# Altium schematic symbol library Proteus.SchLib: 169 symbols (part 2 of 2)
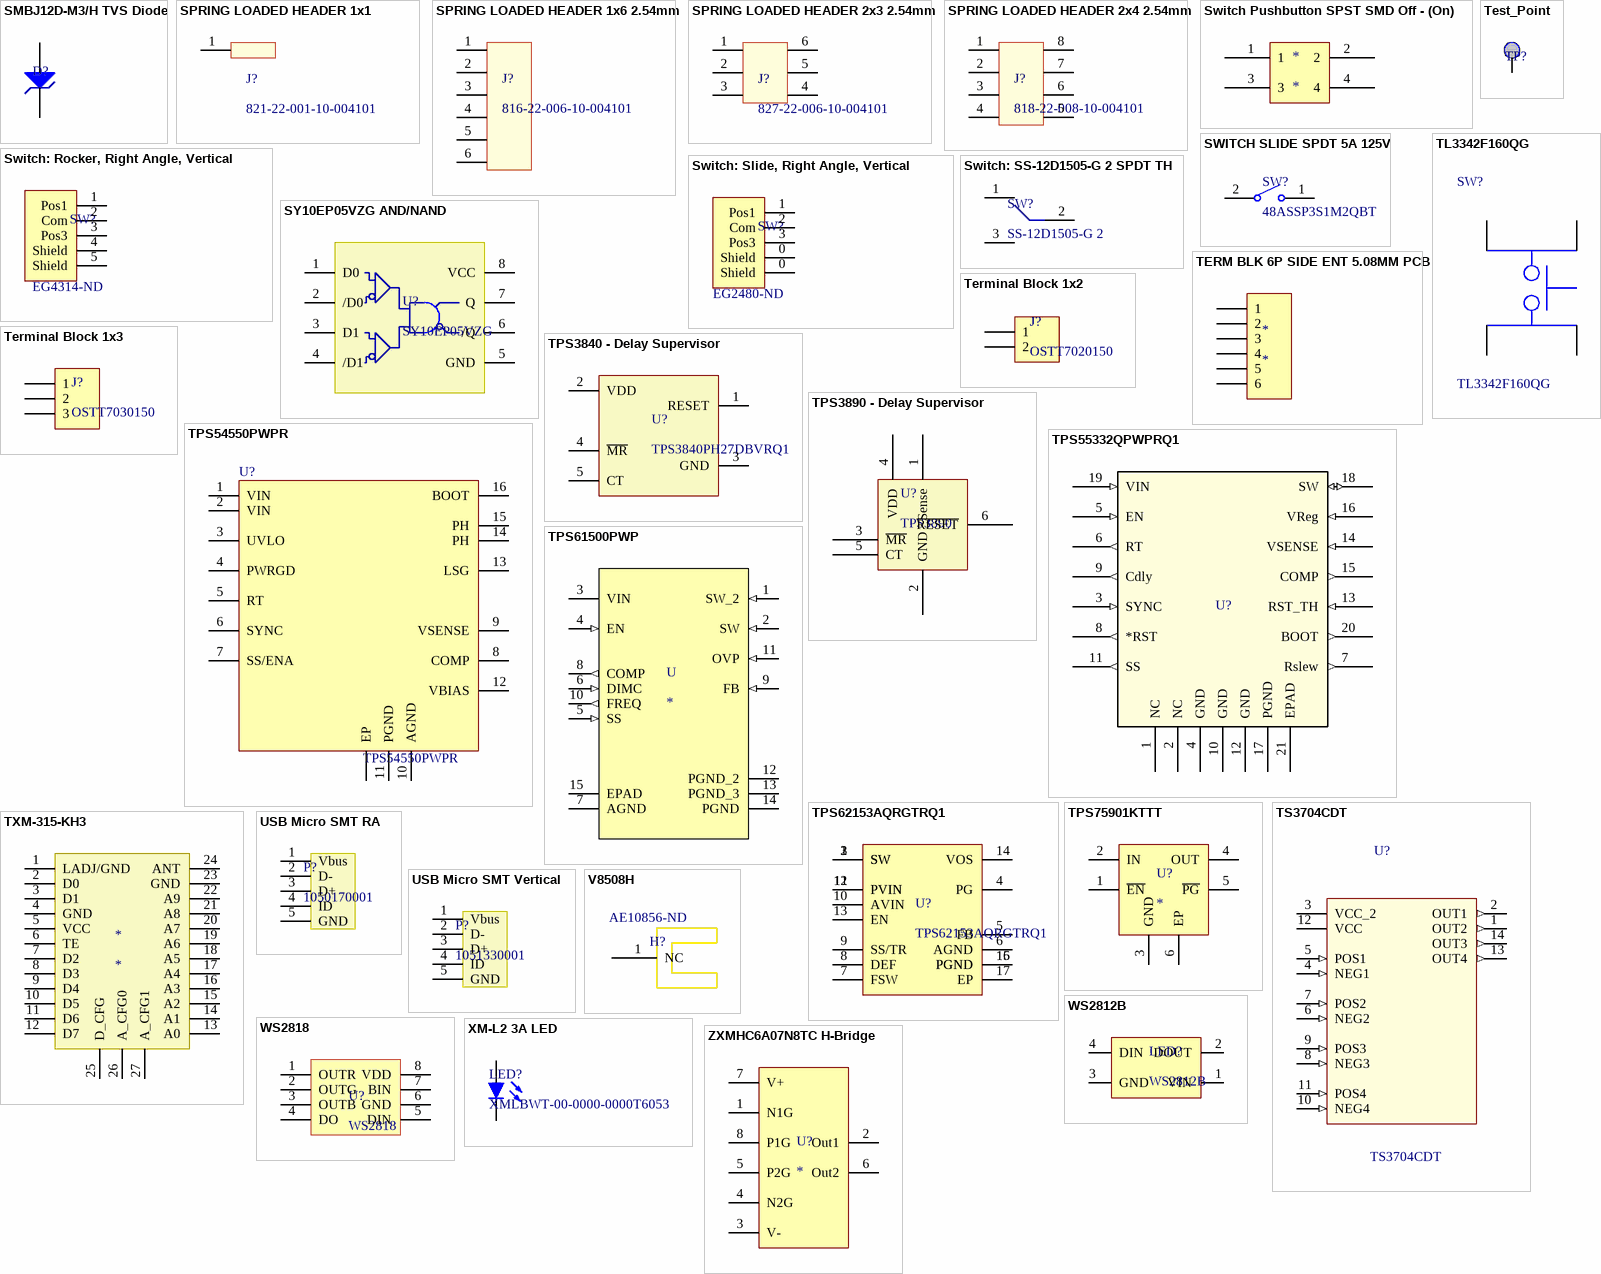
[diagram p5: symbols SMBJ12D-M3/H TVS Diode to ZXMHC6A07N8TC H-Bridge]

## TPS55332QPWPRQ1
designator U?  (value not drawn)
Boost Switching Regulator IC Positive Adjustable 2.5V 1 Output 3A (Switch) 20-TSSOP (0.173", 4.40mm Width) Exposed Pad; Manufacturer: Texas Instruments; Manufacturer PN: TPS55332QPWPRQ1; Supplier 1: Digikey; Supplier 1 PN: 296-24622-1-ND
footprint 20-TSSOP (20-TSSOP (0.173", 4.40mm Width) Exposed Pad)
pins: 1 NC, 2 NC, 3 SYNC (in), 4 GND (power), 5 EN (in), 6 RT (out), 7 Rslew (out), 8 *RST (out), 9 Cdly (out), 10 GND (power), 11 SS (out), 12 GND (power), 13 RST_TH (in), 14 VSENSE (in), 15 COMP (out), 16 VReg (in), 17 PGND (power), 18 SW (io), 19 VIN (in), 20 BOOT (out), 21 EPAD

## TPS61500PWP
designator U
High Brightness LED Driver with Integrated 3-A, 40-V Power Switch 14-HTSSOP -40 to 85; MF: Texas Instruments; MP: TPS61500PWP; SnapEDA_Link: https://www.snapeda.com/parts/TPS61500PWP/Texas%20Instruments/view-part/1101384/?ref=snap; Availability: Unavailable; Price: None; Package: HTSSOP-14 Texas Instruments; Value: *
footprint SOP65P640X120-15N
pins: 1 SW_2 (in), 2 SW (in), 3 VIN (power), 4 EN (in), 5 SS (in), 6 DIMC (in), 7 AGND, 8 COMP (out), 9 FB (in), 10 FREQ (out), 11 OVP (in), 12 PGND_2, 13 PGND_3, 14 PGND, 15 EPAD

## TPS62153AQRGTRQ1
designator U?
Buck Switching Regulator IC Positive Fixed 5V 1 Output 1A 16-VFQFN Exposed Pad; MF: Texas Instruments; MP: TPS62153AQRGTRQ1
footprint 16-VFQFN Exposed Pad
pins: 1 SW, 2 SW, 3 SW, 4 PG, 5 FB, 6 AGND, 7 FSW, 8 DEF, 9 SS/TR, 10 AVIN, 11 PVIN, 12 PVIN, 13 EN, 14 VOS, 15 PGND, 16 PGND, 17 EP

## TPS75901KTTT
designator U?
Linear Voltage Regulator IC Positive Adjustable 1 Output 7.5A DDPAK/TO-263-5; MP: TPS75901KTTT; MF: Texas Instruments
footprint VREG_TPS79625KTTR
pins: 1 ~{EN}, 2 IN, 3 GND, 4 OUT, 5 ~{PG}, 6 EP

## TS3704CDT
designator U?
Comparator General Purpose CMOS, Push-Pull 14-SO; MF: STMicroelectronics; Package: SO-14 STMicroelectronics; Digi-Key_Part_Number: 497-4063-1-ND; Digi-Key_Purchase_URL: https://www.digikey.com/product-detail/en/stmicroelectronics/TS3704CDT/497-4063-1-ND/720983?utm_source=snapeda&utm_medium=aggregator&utm_campaign=symbol; SnapEDA_Link: https://www.snapeda.com/parts/TS3704CDT/STMicroelectronics/view-part/1049970/?ref=snap; MP: TS3704CDT; Value: *
footprint SOIC127P600X175-14N
pins: 1 OUT2 (out), 2 OUT1 (out), 3 VCC_2 (power), 4 NEG1 (in), 5 POS1 (in), 6 NEG2 (in), 7 POS2 (in), 8 NEG3 (in), 9 POS3 (in), 10 NEG4 (in), 11 POS4 (in), 12 VCC (power), 13 OUT4 (out), 14 OUT3 (out)

## TXM-315-KH3
designator *
footprint TXM-315-KH3 (Linx Transmitter Module)
pins: 1 LADJ/GND, 2 D0, 3 D1, 4 GND, 5 VCC, 6 TE, 7 D2, 8 D3, 9 D4, 10 D5, 11 D6, 12 D7, 13 A0, 14 A1, 15 A2, 16 A3, 17 A4, 18 A5, 19 A6, 20 A7, 21 A8, 22 A9, 23 GND, 24 ANT, 25 D_CFG, 26 A_CFG0, 27 A_CFG1

## USB Micro SMT RA
designator P?, comment 1050170001
MICRO USB B REC. Horizontal; Manufacturer: Molex; Manufacturer PN: 1050170001; Digikey PN: WM1399CT-ND
footprint USB Micro RA
pins: 1 Vbus, 2 D-, 3 D+, 4 ID, 5 GND

## USB Micro SMT Vertical
designator P?, comment 1051330001
MICRO USB B REC. VERTICAL TYPE; Manufacturer: Molex; Manufacturer PN: 1051330001; Digikey PN: WM9734CT-ND
footprint USB Micro: SMT Vert (MICRO USB B REC. VERTICAL TYPE)
pins: 1 Vbus, 2 D-, 3 D+, 4 ID, 5 GND

## V8508H
designator H?  Supplier Part Number 1: AE10856-ND  (hidden comment: V8508H)
HEAT SINK ANOD ALUM TO-220; Manufacturer: Assmann WSW Components; Supplier 1 PN: AE10856-ND; Manufacturer PN: V8508H; Supplier 1: Digi-Key
footprint V8508H (HEAT SINK ANOD ALUM TO-220)
pins: 1 NC

## WS2812B
designator LED?
footprint WS2812B - Hand-Solder
footprint WS2812B - Normal
pins: 1 VIN, 2 DOUT, 3 GND, 4 DIN

## WS2818
designator U?
MfgPN: WS2818
footprint MSOP8
pins: 1 OUTR, 2 OUTG, 3 OUTB, 4 DO, 5 DIN, 6 GND, 7 BIN, 8 VDD

## XM-L2 3A LED
designator LED?, comment XMLBWT-00-0000-0000T6053
MFG PN: XMLBWT-00-0000-0000T6053
footprint 2020 (5050 Metric)
pins: 1, 2

## ZXMHC6A07N8TC H-Bridge
designator U?
Mosfet Array 2 N and 2 P-Channel (H-Bridge) 60V 1.39A, 1.28A 870mW Surface Mount 8-SOP; MFG PN: ZXMHC6A07N8TC
footprint 8-SOIC
pins: 1 N1G, 2 Out1, 3 V-, 4 N2G, 5 P2G, 6 Out2, 7 V+, 8 P1G